# EAGLE library part 74LVC1G157GV-Q100H (library 74LVC1G157GV-Q100H - Nexperia)
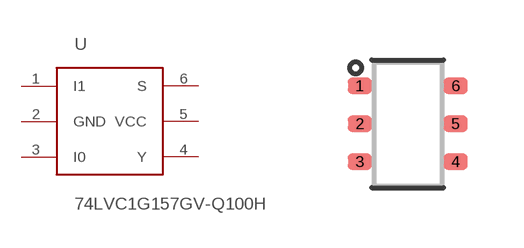
[diagram p0: symbol with the pads of 6-TSOP; footprint 6-TSOP]

Designator prefix U

## 74LVC1G157GV-Q100H  [6-TSOP]
1  I1  in
2  GND  pwr
3  I0  in
4  Y  out
5  VCC  pwr
6  S  in

## Footprint 6-TSOP (pad centres in mm)
smd 0.6 x 0.4: 1 -1.2,0.95; 2 -1.2,0; 3 -1.2,-0.95; 4 1.2,-0.95; 5 1.2,0; 6 1.2,0.95